# Altium schematic symbol library Counter_Shift_Registers.SchLib: 1 symbol
Pins are listed as number, name and electrical type; pins without a type are passive.

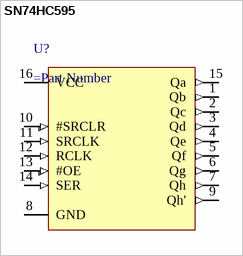
[diagram p0: symbol SN74HC595]

## SN74HC595
designator U?
pins: 1 Qb (out), 2 Qc (out), 3 Qd (out), 4 Qe (out), 5 Qf (out), 6 Qg (out), 7 Qh (out), 8 GND (power), 9 Qh' (out), 10 #SRCLR (in), 11 SRCLK (in), 12 RCLK (in), 13 #OE (in), 14 SER (in), 15 Qa (out), 16 VCC (power)